# EAGLE library part DB19F (library big-mess-o-wires)
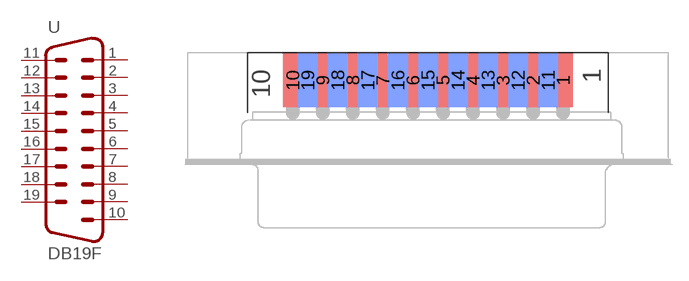
[diagram p2: symbol with the pads of DB19F-EDGE; footprint DB19F-EDGE]

Designator prefix -

## DB19F  [DB19F-EDGE]
1  1  pas
2  2  pas
3  3  pas
4  4  pas
5  5  pas
6  6  pas
7  7  pas
8  8  pas
9  9  pas
10  10  pas
11  11  pas
12  12  pas
13  13  pas
14  14  pas
15  15  pas
16  16  pas
17  17  pas
18  18  pas
19  19  pas

## Footprint DB19F-EDGE (pad centres in mm)
smd 1.8 x 5: 1 12.465,5.54; 2 9.695,5.54; 3 6.925,5.54; 4 4.155,5.54; 5 1.385,5.54; 6 -1.385,5.54; 7 -4.155,5.54; 8 -6.925,5.54; 9 -9.695,5.54; 10 -12.465,5.54
smd 1.8 x 5 bottom: 11 11.08,5.54; 12 8.31,5.54; 13 5.54,5.54; 14 2.77,5.54; 15 0,5.54; 16 -2.77,5.54; 17 -5.54,5.54; 18 -8.31,5.54; 19 -11.08,5.54